# EAGLE library part M74HC4066B1R (library ST Microelctronics_By_element14_Batch_1)
QUAD BILATERAL SWITCH
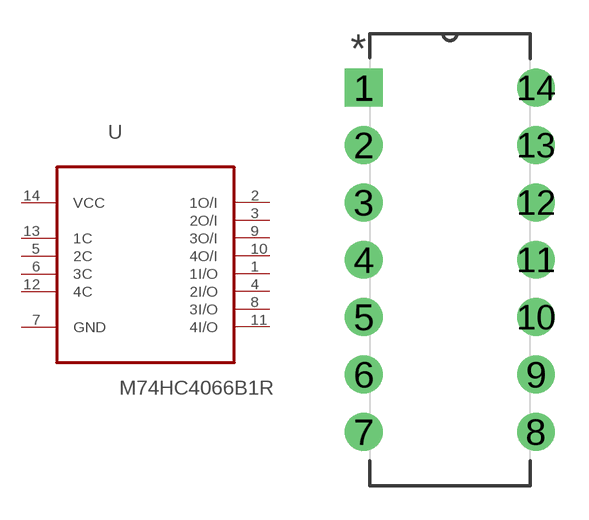
[diagram p237: symbol with the pads of DIP254P762X510-14; footprint DIP254P762X510-14]

Designator prefix U

## M74HC4066B1R (MPN: M74HC4066B1R; OC_FARNELL: -; OC_NEWARK: 89K0912; PACKAGE: PDIP-14; SUPPLIER: STMICROELECTRONICS)  [DIP254P762X510-14]
1  1I/O
2  1O/I
3  2O/I
4  2I/O
5  2C  in
6  3C  in
7  GND  pas
8  3I/O
9  3O/I
10  4O/I
11  4I/O
12  4C  in
13  1C  in
14  VCC  pwr

## Footprint DIP254P762X510-14 (pad centres in mm)
drill 1.118 square: 1 -7.62,15.24
drill 1.118: 2 -7.62,12.7; 3 -7.62,10.16; 4 -7.62,7.62; 5 -7.62,5.08; 6 -7.62,2.54; 7 -7.62,0; 8 0,0; 9 0,2.54; 10 0,5.08; 11 0,7.62; 12 0,10.16; 13 0,12.7; 14 0,15.24